# Altium schematic symbol library SCH - CONNECTORS - 12 PIN DUAL ROW.SCHLIB: 1 symbol
Pins are listed as number, name and electrical type; pins without a type are passive.

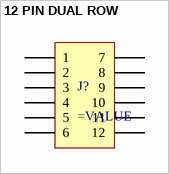
[diagram p0: symbol 12 PIN DUAL ROW]

## 12 PIN DUAL ROW
designator J?
pins: 1, 2, 3, 4, 5, 6, 7, 8, 9, 10, 11, 12